# EAGLE library part 74*2G14 (library modular_robotics)
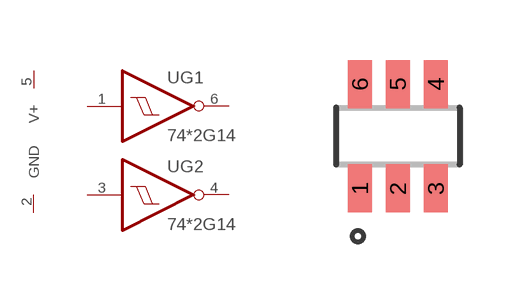
[diagram p17: symbol with the pads of SOT23-6; footprint SOT23-6]

Designator prefix -; gates PWR=PWR+G G1=74*14 G2=74*14

## 742G14  [SOT23-6]
1  G1:I  in
2  PWR:GND  pwr
3  G2:I  in
4  G2:O  out
5  PWR:V+  pwr
6  G1:O  out

## Footprint SOT23-6 (pad centres in mm)
smd 0.6 x 1.2: 1 -0.95,-1.306; 2 0,-1.306; 3 0.95,-1.306; 4 0.95,1.306; 5 0,1.306; 6 -0.95,1.306